# Altium schematic symbol library ClassD-DemoBoard.SCHLIB: 17 symbols
Pins are listed as number, name and electrical type; pins without a type are passive.

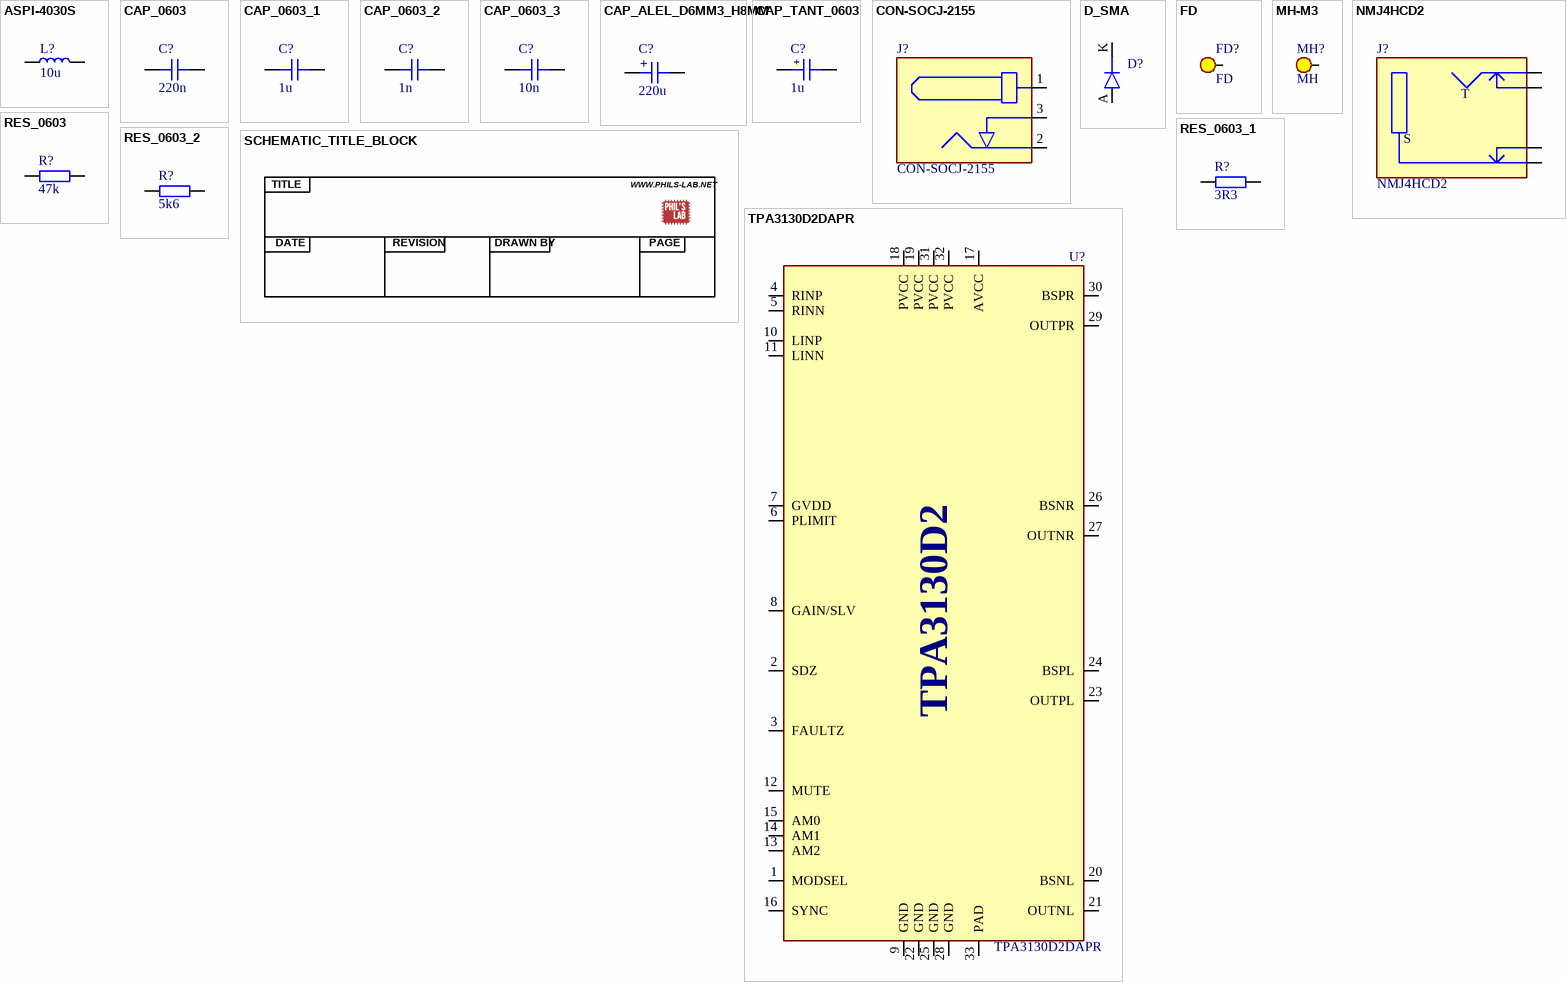
[diagram p0: symbols ASPI-4030S to TPA3130D2DAPR]

## ASPI-4030S
designator L?, comment 10u
Power Inductor SMD ASPI-4030S Series; Manufacturer: ABRACON; Manufacturer Part Number: ASPI-4030S-100M-T; Distributor Link: https://www.lcsc.com/product-detail/Power-Inductors_Abracon-LLC-ASPI-4030S-100M-T_C2050513.html; LCSC: C2050513
footprint ASPI-4030S
pins: 1, 2

## CAP_0603
designator C?, comment 220n
Capacitor SMD 0603; Manufacturer: Samsung; Manufacturer Part Number: CL10B224KA8NNNC; Rating: 25V; Distributor Link: https://www.lcsc.com/product-detail/Multilayer-Ceramic-Capacitors-MLCC-SMD-SMT_Samsung-Electro-Mechanics-CL10B224KA8NNNC_C21120.html; LCSC: C21120; Dielectric: *
footprint CAP_0603
pins: 1, 2

## CAP_0603_1
designator C?, comment 1u
Capacitor SMD 0603; Manufacturer: Samsung; Manufacturer Part Number: CL10A105KB8NNNC; Rating: 50V; Distributor Link: https://www.lcsc.com/product-detail/Multilayer-Ceramic-Capacitors-MLCC-SMD-SMT_Samsung-Electro-Mechanics-CL10A105KB8NNNC_C15849.html; LCSC: C15849; Dielectric: *
footprint CAP_0603
pins: 1, 2

## CAP_0603_2
designator C?, comment 1n
Capacitor SMD 0603; Manufacturer: Samsung; Manufacturer Part Number: CL10B102KB8NNNC; Rating: 50V; Distributor Link: https://www.lcsc.com/product-detail/Multilayer-Ceramic-Capacitors-MLCC-SMD-SMT_Samsung-Electro-Mechanics-CL10B102KB8NNNC_C1588.html; LCSC: C1588; Dielectric: *
footprint CAP_0603
pins: 1, 2

## CAP_0603_3
designator C?, comment 10n
Capacitor SMD 0603; Manufacturer: FH; Manufacturer Part Number: 0603B103K500NT; Rating: 50V; Distributor Link: https://www.lcsc.com/product-detail/Multilayer-Ceramic-Capacitors-MLCC-SMD-SMT_FH-Guangdong-Fenghua-Advanced-Tech-0603B103K500NT_C57112.html; LCSC: C57112; Dielectric: *
footprint CAP_0603
pins: 1, 2

## CAP_ALEL_D6MM3_H8MM
designator C?, comment 220u
Capacitor SMD Aluminium Electrolytic 6.3mm Diameter 8mm Height; Manufacturer: Nichicon; Manufacturer Part Number: UCM1E221MCL1GS; Distributor Link: https://www.lcsc.com/product-detail/Aluminum-Electrolytic-Capacitors-SMD_Nichicon-UCM1E221MCL1GS_C340768.html; LCSC: C340768
footprint CAP_AE_SMD_D6MM3_H8MM
pins: 1, 2
text: +

## CAP_TANT_0603
designator C?, comment 1u
Capacitor SMD Tantalum 0603; Manufacturer: Vishay; Manufacturer Part Number: 298D105X0025M2T; Distributor Link: https://www.lcsc.com/product-detail/Tantalum-Capacitors_Vishay-Intertech-298D105X0025M2T_C1952840.html; LCSC: C1952840
footprint CAP_TANT_0603
pins: A, K
text: +

## CON-SOCJ-2155
designator J?
DC Barrell Jack 2.1mm 30V 2.5A THT; Manufacturer: Gravitech; Manufacturer Part Number: CON-SOCJ-2155; Distributor Link: https://www.mouser.de/ProductDetail/Gravitech/CON-SOCJ-2155?qs=fkzBJ5HM%252BdCcpvFQyQZHtA%3D%3D&_gl=1*ni0d5y*_ga*MjU5MDE1MzgyLjE2NTQ4NDcxMjU.*_ga_15W4STQT4T*MTY5Njc2NjEwNi4yNTkuMS4xNjk2NzY2MTE4LjQ4LjAuMA..*_ga_1KQLCYKRX3*MTY5NTYzNTI2NS4xODkuMS4xNjk1NjM1MjcxLjU0LjAuMA..
footprint CON-SOCJ-2155
pins: 1, 2, 3

## D_SMA
designator D?  (value not drawn)  (no BOM)
Diode SMD SMA (DO-214AA)
footprint DO-214AC-2 (SMA)
pins: A, K

## FD
designator FD?
Fidicuial
footprint Fiducial
pins: FD

## MH-M3
designator MH?, comment MH
Mounting Hole M3
footprint MH-M3 (Mounting Hole)
pins: MH

## NMJ4HCD2
designator J?
1/4" Mono Jack, TS Switched; Manufacturer: Neutrik; Manufacturer Part Number: NMJ4HCD2; Distributor Link: https://www.mouser.de/ProductDetail/Neutrik/NMJ4HCD2?qs=SzdD80gJ2cAr9Xh3wJi7nw%3D%3D
footprint NMJ4HCD2
pins: S, SN, T, TN

## RES_0603
designator R?, comment 47k
Resistor SMD 0603; Manufacturer: UNI-ROYAL; Manufacturer Part Number: 0603WAF4702T5E; Distributor Link: https://www.lcsc.com/product-detail/Chip-Resistor-Surface-Mount_UNI-ROYAL-Uniroyal-Elec-0603WAF4702T5E_C25819.html; LCSC: C25819
footprint RES_0603
pins: 1, 2

## RES_0603_1
designator R?, comment 3R3
Resistor SMD 0603; Manufacturer: YAGEO; Manufacturer Part Number: RC0603JR-073R3L; Distributor Link: https://www.lcsc.com/product-detail/Chip-Resistor-Surface-Mount_YAGEO-RC0603JR-073R3L_C137627.html; LCSC: C137627
footprint RES_0603
pins: 1, 2

## RES_0603_2
designator R?, comment 5k6
Resistor SMD 0603; Manufacturer: UNI-ROYAL; Manufacturer Part Number: 0603WAF5601T5E; Distributor Link: https://www.lcsc.com/product-detail/Chip-Resistor-Surface-Mount_UNI-ROYAL-Uniroyal-Elec-0603WAF5601T5E_C23189.html; LCSC: C23189
footprint RES_0603
pins: 1, 2

## SCHEMATIC_TITLE_BLOCK
designator TB??  (value not drawn)  (graphical)
Default Schematic Title Block (Phil's Lab)
text: TITLE; WWW.PHILS-LAB.NET; DATE; REVISION; DRAWN BY; PAGE

## TPA3130D2DAPR
designator U?
2x15W Filter-Free Class-D Stereo Amplifier With AM Avoidance; Manufacturer: Texas Instruments; Manufacturer Part Number: TPA3130D2DAPR; Distributor Link: https://www.lcsc.com/product-detail/Audio-Power-OpAmps_Texas-Instruments-TPA3130D2DAPR_C95206.html; LCSC: C95206
footprint TSSOP32-DAP (TSOP, 32-Leads, Body 11.00x6.10mm, Pitch 0.65mm, IPC Medium Density)
pins: 1 MODSEL, 2 SDZ, 3 FAULTZ, 4 RINP, 5 RINN, 6 PLIMIT, 7 GVDD, 8 GAIN/SLV, 9 GND, 10 LINP, 11 LINN, 12 MUTE, 13 AM2, 14 AM1, 15 AM0, 16 SYNC, 17 AVCC, 18 PVCC, 19 PVCC, 20 BSNL, 21 OUTNL, 22 GND, 23 OUTPL, 24 BSPL, 25 GND, 26 BSNR, 27 OUTNR, 28 GND, 29 OUTPR, 30 BSPR, 31 PVCC, 32 PVCC, 33 PAD
text: TPA3130D2